# EAGLE library part JST_S5B-PH-SM4-TB (library DMF-Additional_Supply_dmf)
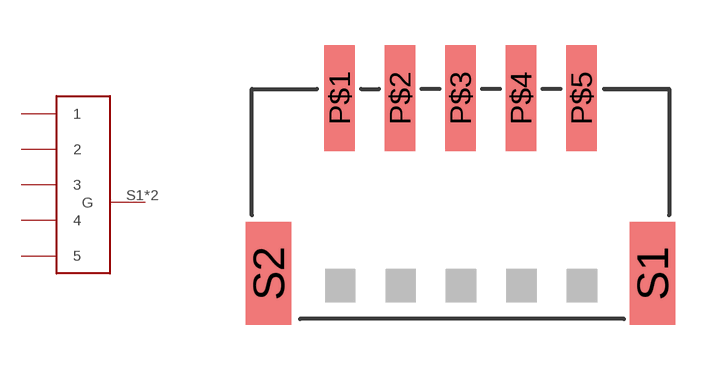
[diagram p2: symbol with the pads of JST-S5B-PH-SM4-TB; footprint JST-S5B-PH-SM4-TB]

Designator prefix J

## JST_S5B-PH-SM4-TB  [JST-S5B-PH-SM4-TB]
P$1  1
P$2  2
P$3  3
P$4  4
P$5  5
S1  G
S2  G

## Footprint JST-S5B-PH-SM4-TB (pad centres in mm)
smd 1 x 3.5: P$1 -4,6.2; P$2 -2,6.2; P$3 0,6.2; P$4 2,6.2; P$5 4,6.2
smd 1.5 x 3.4: S1 6.35,0.4; S2 -6.35,0.4